# EAGLE library part M25P128 (library mylib)
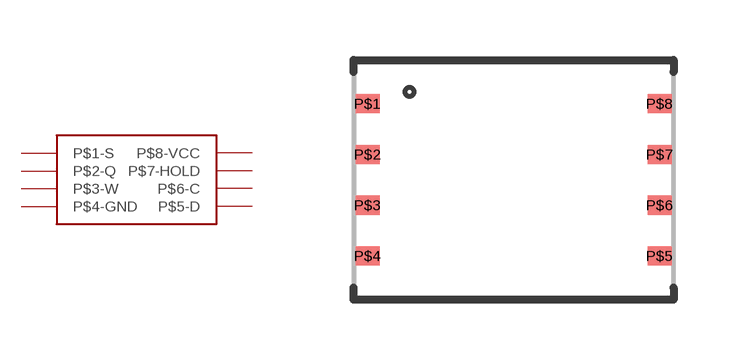
[diagram p1: symbol with the pads of VDFPN8; footprint VDFPN8]

Designator prefix -

## M25P128  [VDFPN8]
P$1  P$1-S  in
P$2  P$2-Q  out
P$3  P$3-W  in
P$4  P$4-GND  pwr
P$5  P$5-D  in
P$6  P$6-C  in
P$7  P$7-HOLD  in
P$8  P$8-VCC  pwr

## Footprint VDFPN8 (pad centres in mm)
smd 0.6 x 0.48: P$1 -3.65,1.905; P$2 -3.65,0.635; P$3 -3.65,-0.635; P$4 -3.65,-1.905; P$5 3.65,-1.905; P$6 3.65,-0.635; P$7 3.65,0.635; P$8 3.65,1.905